# EAGLE library part U-ATHEROS-AR9271 (library U-Atheros-AR9271-WiFi-adapter)
Atheros WiFi WLAN device
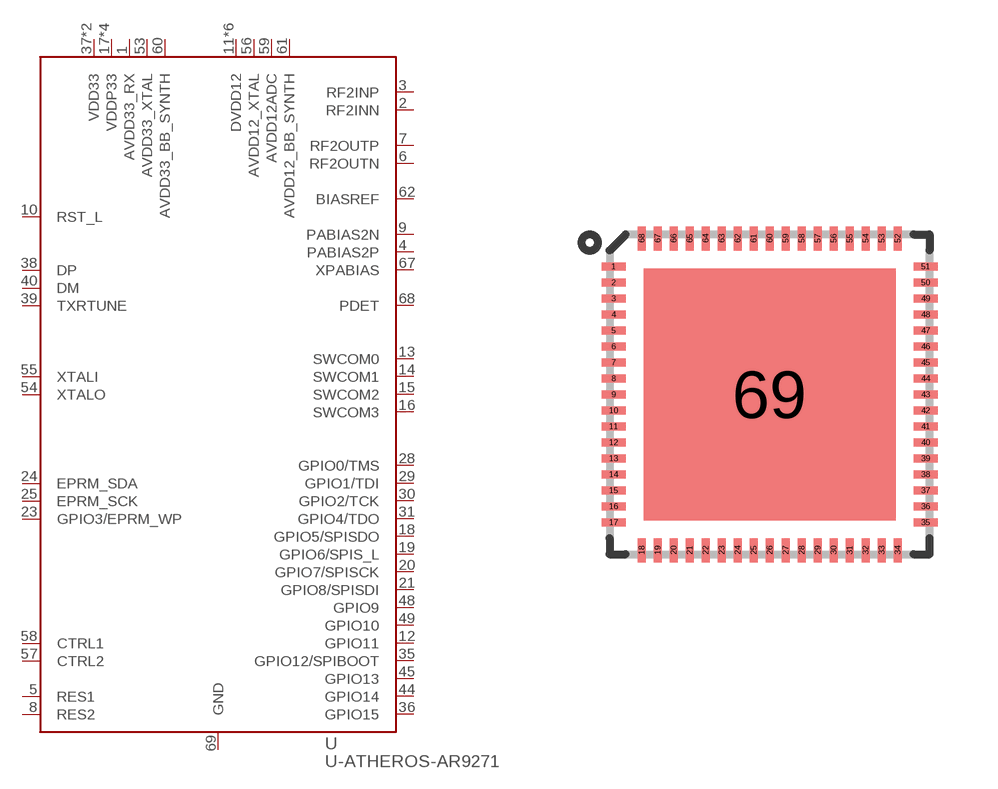
[diagram p0: symbol with the pads of QFN-68; footprint QFN-68]

Designator prefix U

## U-ATHEROS-AR9271  [QFN-68]
1  AVDD33_RX  pwr
2  RF2INN  in
3  RF2INP  in
4  PABIAS2P  in
5  RES1  in
6  RF2OUTN
7  RF2OUTP
8  RES2  in
9  PABIAS2N  in
10  RST_L
11  DVDD12  pwr
12  GPIO11
13  SWCOM0  out
14  SWCOM1  out
15  SWCOM2  out
16  SWCOM3  out
17  VDDP33  pwr
18  GPIO5/SPISDO
19  GPIO6/SPIS_L
20  GPIO7/SPISCK
21  GPIO8/SPISDI
22  DVDD12  pwr
23  GPIO3/EPRM_WP
24  EPRM_SDA
25  EPRM_SCK  out
26  VDDP33  pwr
27  DVDD12  pwr
28  GPIO0/TMS
29  GPIO1/TDI
30  GPIO2/TCK
31  GPIO4/TDO
33  VDDP33  pwr
35  GPIO12/SPIBOOT
36  GPIO15
37  VDD33  pwr
38  DP
39  TXRTUNE
40  DM
41  VDD33  pwr
42  DVDD12  pwr
43  DVDD12  pwr
44  GPIO14
45  GPIO13
46  DVDD12  pwr
47  VDDP33  pwr
48  GPIO9
49  GPIO10
53  AVDD33_XTAL  pwr
54  XTALO  out
55  XTALI  in
56  AVDD12_XTAL  pwr
57  CTRL2
58  CTRL1
59  AVDD12ADC  pwr
60  AVDD33_BB_SYNTH  pwr
61  AVDD12_BB_SYNTH  pwr
62  BIASREF  in
67  XPABIAS  out
68  PDET  in
69  GND  pwr

## Footprint QFN-68 (pad centres in mm)
smd 0.6 x 0.2: 1 -3.9,3.2; 2 -3.9,2.8; 3 -3.9,2.4; 4 -3.9,2; 5 -3.9,1.6; 6 -3.9,1.2; 7 -3.9,0.8; 8 -3.9,0.4; 9 -3.9,0; 10 -3.9,-0.4; 11 -3.9,-0.8; 12 -3.9,-1.2; 13 -3.9,-1.6; 14 -3.9,-2; 15 -3.9,-2.4; 16 -3.9,-2.8; 17 -3.9,-3.2; 35 3.9,-3.2; 36 3.9,-2.8; 37 3.9,-2.4; 38 3.9,-2; 39 3.9,-1.6; 40 3.9,-1.2; 41 3.9,-0.8; 42 3.9,-0.4; 43 3.9,0; 44 3.9,0.4; 45 3.9,0.8; 46 3.9,1.2; 47 3.9,1.6; 48 3.9,2; 49 3.9,2.4; 50 3.9,2.8; 51 3.9,3.2
smd 0.2 x 0.6: 18 -3.2,-3.9; 19 -2.8,-3.9; 20 -2.4,-3.9; 21 -2,-3.9; 22 -1.6,-3.9; 23 -1.2,-3.9; 24 -0.8,-3.9; 25 -0.4,-3.9; 26 0,-3.9; 27 0.4,-3.9; 28 0.8,-3.9; 29 1.2,-3.9; 30 1.6,-3.9; 31 2,-3.9; 32 2.4,-3.9; 33 2.8,-3.9; 34 3.2,-3.9; 52 3.2,3.9; 53 2.8,3.9; 54 2.4,3.9; 55 2,3.9; 56 1.6,3.9; 57 1.2,3.9; 58 0.8,3.9; 59 0.4,3.9; 60 0,3.9; 61 -0.4,3.9; 62 -0.8,3.9; 63 -1.2,3.9; 64 -1.6,3.9; 65 -2,3.9; 66 -2.4,3.9; 67 -2.8,3.9; 68 -3.2,3.9
smd 6.3 x 6.3: 69 0,0